# Altium schematic symbol library MAX2623EUA+T.SchLib: 1 symbol
Pins are listed as number, name and electrical type; pins without a type are passive.

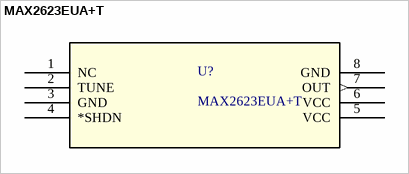
[diagram p0: symbol MAX2623EUA+T]

## MAX2623EUA+T
designator U?
No Description Available; Vendor: Maxim Integrated Products; Built_By: EMA_UL_Team; SourceLibrary: Maxim_2014-04-30_2; Manufacturer_Part_Number: MAX2623EUA+T; Revision: 2; Copyright: Copyright (C) 2018 Accelerated Designs. All rights reserved; RefDes: RefDes; Type: DEV
footprint 21-0036K_MXM
pins: 1 NC, 2 TUNE, 3 GND (power), 4 *SHDN, 5 VCC (power), 6 VCC (power), 7 OUT (out), 8 GND (power)